# EAGLE library part SSW-116-02-S-S (library con-samtec)
THROUGH-HOLE .025" SQ POST SOCKET Source: Samtec SSW.pdf
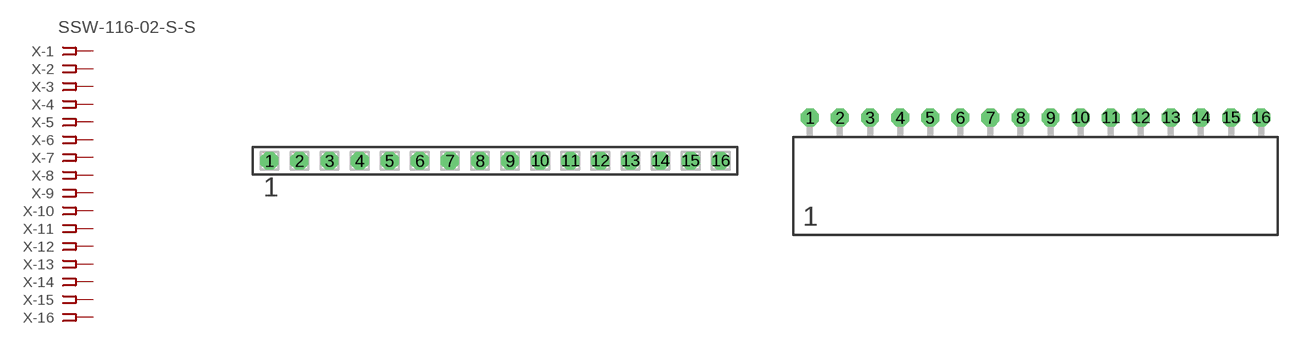
[diagram p88: symbol with the pads of SSW-116-02-S-S; footprints SSW-116-02-S-S, SSW-116-02-S-S-RA]

Designator prefix X; gates -1=FPINV -2=FPIN -3=FPIN -4=FPIN -5=FPIN -6=FPIN -7=FPIN -8=FPIN -9=FPIN -10=FPIN -11=FPIN -12=FPIN -13=FPIN -14=FPIN -15=FPIN -16=FPIN

## SSW-116-02-S-S (MPN: SSW-116-02-S-S; OC_FARNELL: unknown; OC_NEWARK: 29C5896)  [SSW-116-02-S-S]
1  -1:1  pas
2  -2:1  pas
3  -3:1  pas
4  -4:1  pas
5  -5:1  pas
6  -6:1  pas
7  -7:1  pas
8  -8:1  pas
9  -9:1  pas
10  -10:1  pas
11  -11:1  pas
12  -12:1  pas
13  -13:1  pas
14  -14:1  pas
15  -15:1  pas
16  -16:1  pas

## SSW-116-02-S-S-RA (MPN: SSW-116-02-S-S-RA; OC_FARNELL: unknown; OC_NEWARK: 11P9579)  [SSW-116-02-S-S-RA]
Pads as for SSW-116-02-S-S

## Footprint SSW-116-02-S-S (pad centres in mm)
THROUGH-HOLE .025" SQ POST SOCKET Source: Samtec SSW.pdf
drill 1 pad 1.5 octagon: 1 -19.05,0; 2 -16.51,0; 3 -13.97,0; 4 -11.43,0; 5 -8.89,0; 6 -6.35,0; 7 -3.81,0; 8 -1.27,0; 9 1.27,0; 10 3.81,0; 11 6.35,0; 12 8.89,0; 13 11.43,0; 14 13.97,0; 15 16.51,0; 16 19.05,0

## Footprint SSW-116-02-S-S-RA (pad centres in mm)
THROUGH-HOLE .025" SQ POST SOCKET Source: Samtec SSW.pdf
drill 1 pad 1.5 octagon: 1 -19.05,1.524; 2 -16.51,1.524; 3 -13.97,1.524; 4 -11.43,1.524; 5 -8.89,1.524; 6 -6.35,1.524; 7 -3.81,1.524; 8 -1.27,1.524; 9 1.27,1.524; 10 3.81,1.524; 11 6.35,1.524; 12 8.89,1.524; 13 11.43,1.524; 14 13.97,1.524; 15 16.51,1.524; 16 19.05,1.524